# EAGLE library part LTC1663-MSOP8 (library m-pad)
Linear's LTC1663 10-Bit Rail-to-Rail Micropower DAC with 2-Wire Interface Description: The LTC®1663 is a 10-bit voltage output DAC with true buffered rail-to-rail output voltage capability. It operates from a single supply with a range of 2.7V to 5.5V. The reference for the DAC is selectable between the supply voltage or an internal bandgap reference. Selecting the internal bandgap reference will set the full-scale output voltage range to 2.5V. Selecting the supply as the reference sets the output voltage range to the supply voltage. The part features a simple 2-wire serial interface compatible with SMBus and I2C that allows communication between many devices. The internal data registers are double buffered to allow for simultaneous update of several devices at once. The DAC can be put in low current power-down mode for use in power conscious systems. Power-on reset ensures the DAC output is at 0V when power is initially applied, and all internal registers are cleared. Features: Micropower 10-Bit DAC in SOT-23 Low Operating Current: 60mA Ultralow Power Shutdown Mode: 10mA 2-Wire Serial Interface Compatible with SMBus and I2CTM Single 2.7V to 5.5V Operation Selectable Internal Reference or Ratiometric to VCC Buffered True Rail-to-Rail Voltage Output Maximum DNL Error: 0.75LSB Power-On Reset 8 User Selectable Addresses (MSOP Package) 0.6V VIL and 1.4V VIH for SDA and SCL Applications: Small 5-Lead SOT-23 and 8-Lead MSOP Packages Digital Calibration Offset/Gain Adjustment Industrial Process Control Automatic Test Equipment Arbitrary Function Generators Battery-Powered Data Conversion Products Please send any comments to: messi@users.sourceforge.net
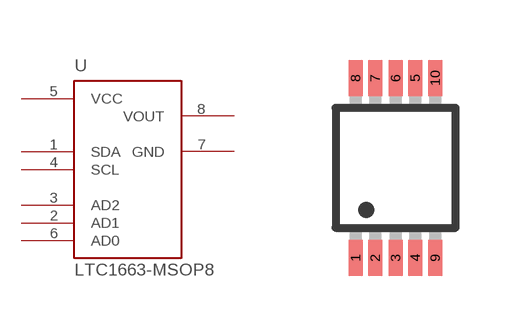
[diagram p42: symbol with the pads of MSOP10; footprint MSOP10]

Designator prefix U

## LTC1663-MSOP8  [MSOP10]
1  SDA
2  AD1  in
3  AD2  in
4  SCL
5  VCC  pwr
6  AD0  in
7  GND  pwr
8  VOUT  sup

## Footprint MSOP10 (pad centres in mm)
MSOP10
smd 0.35 x 0.9: 1 -1,-2.25; 2 -0.51,-2.25; 3 0,-2.25; 4 0.49,-2.25; 5 0.49,2.25; 6 0,2.25; 7 -0.51,2.25; 8 -1,2.25; 9 0.99,-2.25; 10 0.99,2.25